# Altium schematic symbol library 750315038.SchLib: 1 symbol
Pins are listed as number, name and electrical type; pins without a type are passive.

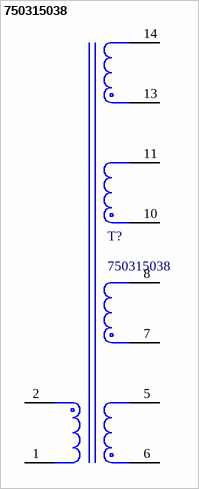
[diagram p0: symbol 750315038]

## 750315038
designator T?
footprint PCBComponent_1
pins: 1 Primary Dot, 2 Secondary Dot, 5 Primary Dot, 6 Secondary Dot, 7 Secondary Dot, 8 Primary Dot, 10 Secondary Dot, 11 Primary Dot, 13 Secondary Dot, 14 Primary Dot